# EAGLE library part MOLEX-EUROSTYLE-0397000106 (library ClintonLib)
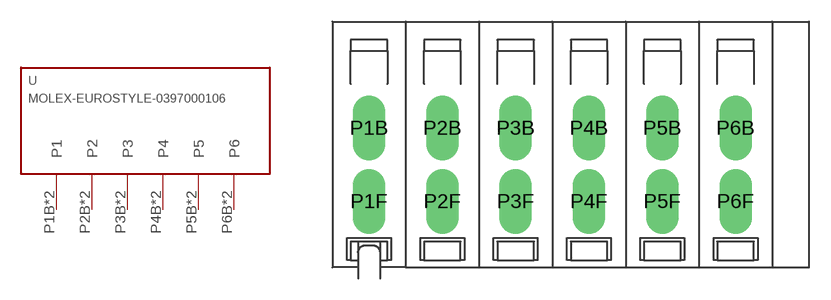
[diagram p2: symbol with the pads of MOLEX-EUROSTYLE-0397000106; footprint MOLEX-EUROSTYLE-0397000106]

Designator prefix -

## MOLEX-EUROSTYLE-0397000106  [MOLEX-EUROSTYLE-0397000106]
P1B  P1
P1F  P1
P2B  P2
P2F  P2
P3B  P3
P3F  P3
P4B  P4
P4F  P4
P5B  P5
P5F  P5
P6B  P6
P6F  P6

## Footprint MOLEX-EUROSTYLE-0397000106 (pad centres in mm)
Eurostyle Wire To Board Terminal, Spring Clips
drill 1.5 long: P1B 2.54,9.652; P1F 2.54,4.572; P2B 7.62,9.652; P2F 7.62,4.572; P3B 12.7,9.652; P3F 12.7,4.572; P4B 17.78,9.652; P4F 17.78,4.572; P5B 22.86,9.652; P5F 22.86,4.572; P6B 27.94,9.652; P6F 27.94,4.572